# EAGLE library part DRV8825_STEPSTICK (library MISC)
Stepstick DRV8825 Stepper Motor Driver For Reprap Prusa Mendel 3d Ramps 1.4
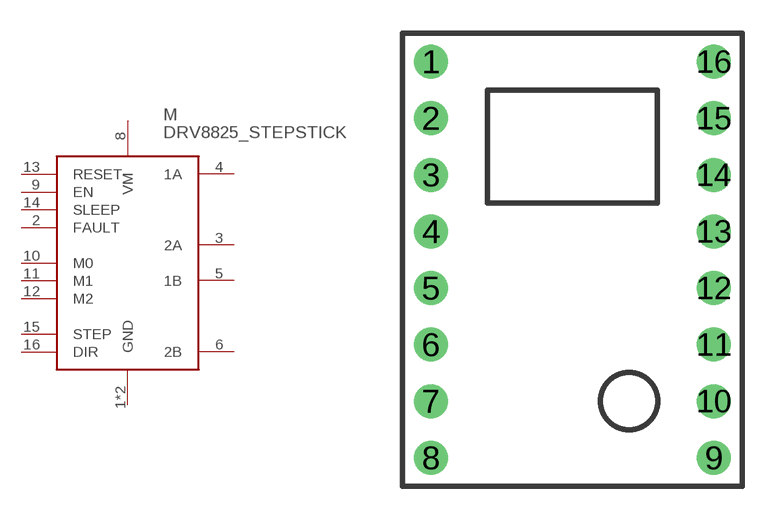
[diagram p8: symbol with the pads of DRV8825_STEPSTICK; footprint DRV8825_STEPSTICK]

Designator prefix M

## DRV8825_STEPSTICK (EBAY: 263101827000; HEIGHT: 10; PRICE_PER: 2.45; VALUE: DRV8825 Module)  [DRV8825_STEPSTICK]
1  GND
2  FAULT
3  2A
4  1A
5  1B
6  2B
7  GND
8  VM
9  EN
10  M0
11  M1
12  M2
13  RESET
14  SLEEP
15  STEP
16  DIR

## Footprint DRV8825_STEPSTICK (pad centres in mm)
drill 1.016: 1 -6.35,8.89; 2 -6.35,6.35; 3 -6.35,3.81; 4 -6.35,1.27; 5 -6.35,-1.27; 6 -6.35,-3.81; 7 -6.35,-6.35; 8 -6.35,-8.89; 9 6.35,-8.89; 10 6.35,-6.35; 11 6.35,-3.81; 12 6.35,-1.27; 13 6.35,1.27; 14 6.35,3.81; 15 6.35,6.35; 16 6.35,8.89